# EAGLE library part TPA3118D2 (library my_ic)
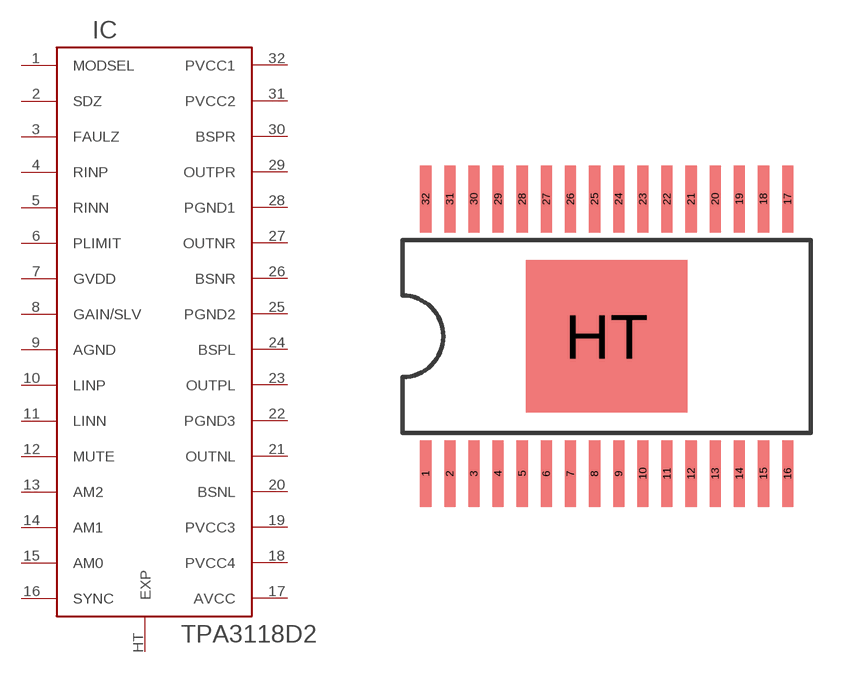
[diagram p9: symbol with the pads of HTSSOP32DAP; footprint HTSSOP32DAP]

Designator prefix IC

## TPA3118D2  [HTSSOP32DAP]
1  MODSEL  in
2  SDZ  in
3  FAULZ  out
4  RINP  in
5  RINN  in
6  PLIMIT  in
7  GVDD  pwr
8  GAIN/SLV  in
9  AGND  pwr
10  LINP  in
11  LINN  in
12  MUTE  in
13  AM2  in
14  AM1  in
15  AM0  in
16  SYNC
17  AVCC  pwr
18  PVCC4  pwr
19  PVCC3  pwr
20  BSNL  out
21  OUTNL  out
22  PGND3  pwr
23  OUTPL  out
24  BSPL  in
25  PGND2  pwr
26  BSNR  out
27  OUTNR  out
28  PGND1  pwr
29  OUTPR  out
30  BSPR  out
31  PVCC2  pwr
32  PVCC1  pwr
HT  EXP  pwr

## Footprint HTSSOP32DAP (pad centres in mm)
PowerPAD(TM) PLASTIC SMALL-OUTLINE PACKAGE DAP (R-PDSO-G**) Source: http://focus.ti.com/lit/ml/mpds029b/mpds029b.pdf / slma002.pdf
smd 0.3 x 1.8: 1 -4.875,-3.7; 2 -4.225,-3.7; 3 -3.575,-3.7; 4 -2.925,-3.7; 5 -2.275,-3.7; 6 -1.625,-3.7; 7 -0.975,-3.7; 8 -0.325,-3.7; 9 0.325,-3.7; 10 0.975,-3.7; 11 1.625,-3.7; 12 2.275,-3.7; 13 2.925,-3.7; 14 3.575,-3.7; 15 4.225,-3.7; 16 4.875,-3.7; 17 4.875,3.7; 18 4.225,3.7; 19 3.575,3.7; 20 2.925,3.7; 21 2.275,3.7; 22 1.625,3.7; 23 0.975,3.7; 24 0.325,3.7; 25 -0.325,3.7; 26 -0.975,3.7; 27 -1.625,3.7; 28 -2.275,3.7; 29 -2.925,3.7; 30 -3.575,3.7; 31 -4.225,3.7; 32 -4.875,3.7
smd 4.36 x 4.11: HT 0,0